# Altium schematic symbol library 47590-0001.SchLib: 1 symbol
Pins are listed as number, name and electrical type; pins without a type are passive.

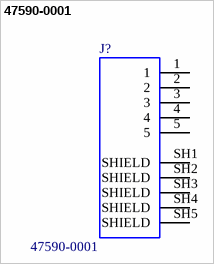
[diagram p0: symbol 47590-0001]

## 47590-0001
designator J?
/ 0.65mm _.0256_ Pitch Micro-USB AB Receptacle, Right Angle, Bottom Mount, SMT, Lead Free /; MF: Molex; Price: None; SnapEDA_Link: https://www.snapeda.com/parts/47590-0001/Molex/view-part/?ref=snap; MP: 47590-0001; Package: None; Availability: Unavailable; Value: *
footprint *MOLEX_47590-0001_47590-0001(Primary)
pins: 1, 2, 3, 4, 5, SH1 SHIELD, SH2 SHIELD, SH3 SHIELD, SH4 SHIELD, SH5 SHIELD